# Altium footprint library DZ_LIB.PcbLib: 61 footprints (part 1 of 4)
Each footprint in its own frame and in the unit in brackets; x right, y up, seen from the top. Pads: shape width x height; smd on the part's side, far side on the other; paste and mask are expansions set on the pad; w line width, h text height; cw(c..) or ccw(c..) is an arc to the next point about the centre after c.
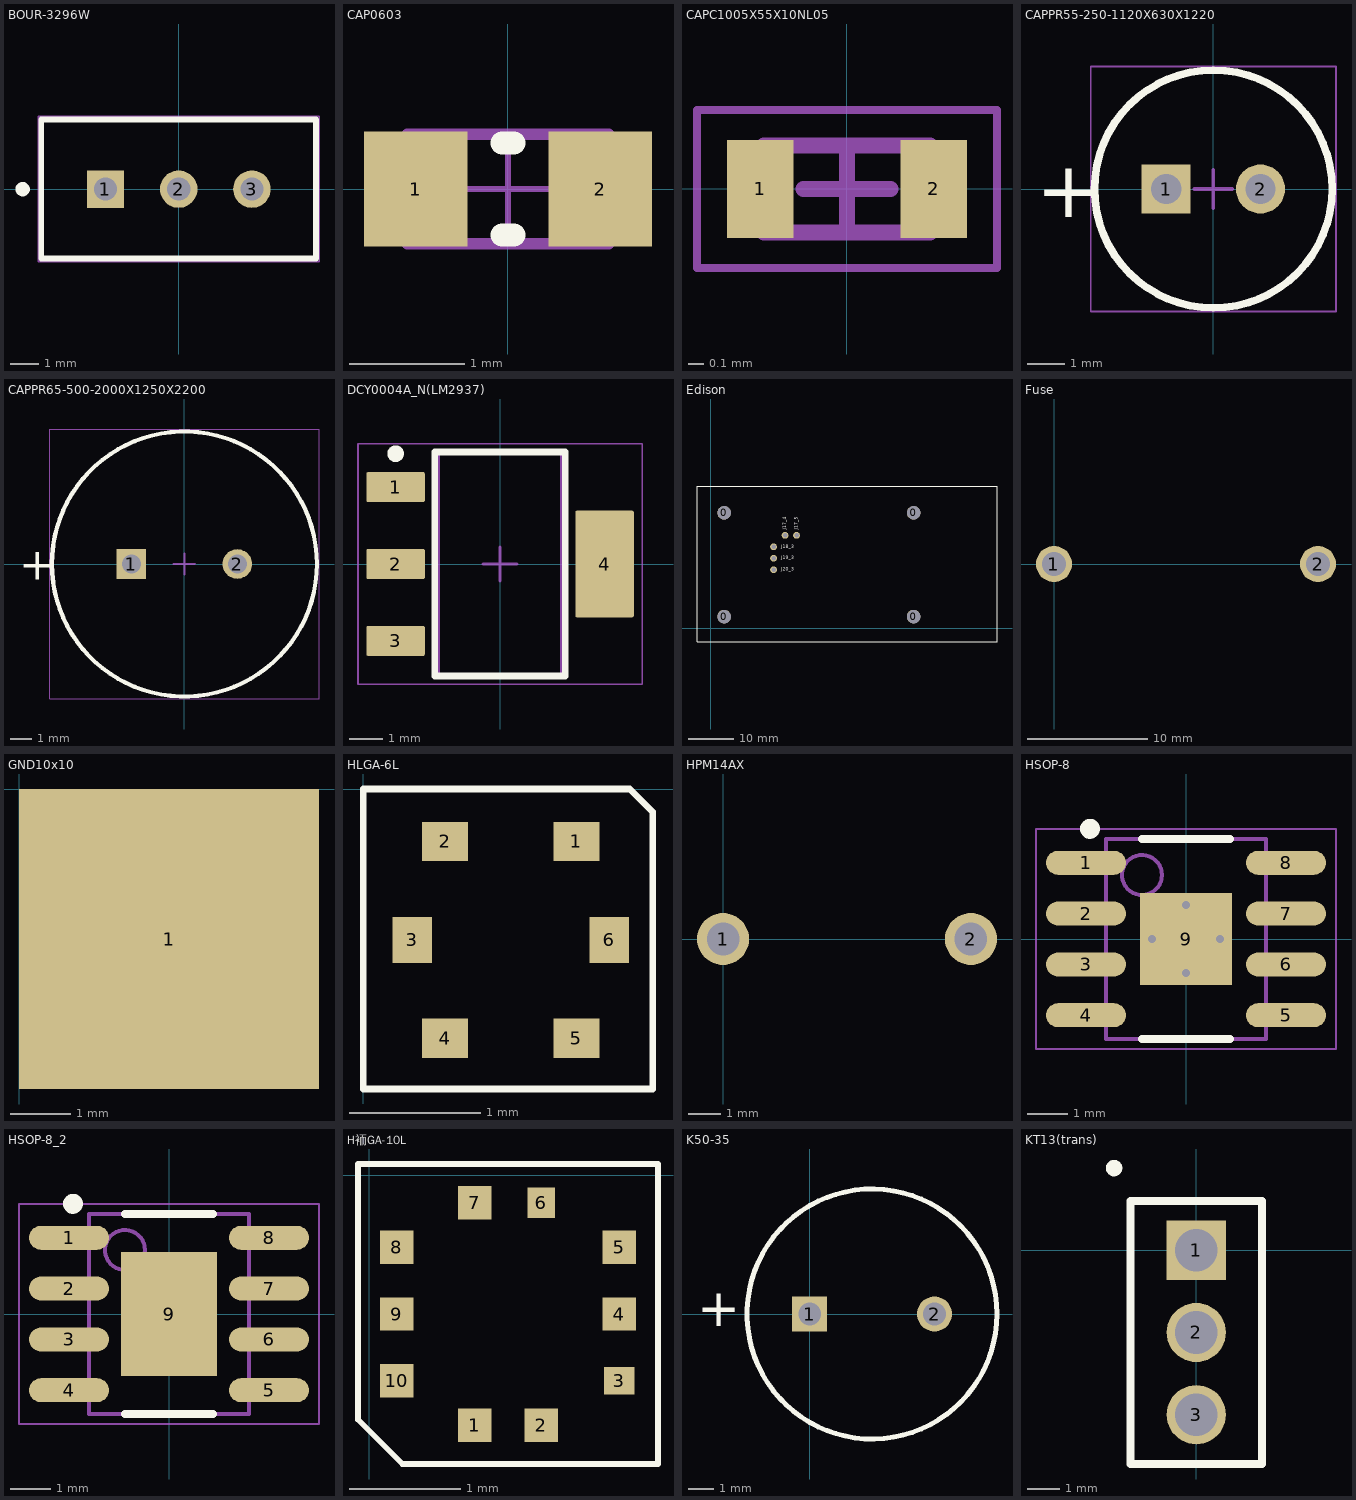
[diagram p0: the footprints below, top view; thin cyan lines are the x and y axes]

## BOUR-3296W [mm] "THD, 3-Leads, Body 9.53x4.83mm, Pitch 2.54mm"
height 11.904
pads (3):
  rect 1.3x1.3 hole 0.8: 1(-2.54,0)
  round 1.3 hole 0.8: 2(0,0) 3(2.54,0)
Top Overlay:
  circle w0.25: c-5.415,0 r0.125
  lines w0.2: 4.765,-2.41 -4.765,-2.41 -4.765,2.42 4.765,2.42 4.765,-2.405
Mechanical 13:
  lines w0.1: -4.765,-2.41 -4.765,2.42 4.765,2.42 4.765,-2.41 -4.765,-2.41
Mechanical 15:
  lines w0.05: -4.865,-2.51 -4.865,2.52 4.865,2.52 4.865,-2.51 -4.865,-2.51
  lines w0.1: -0.5,0 0.5,0 ; 0,-0.5 0,0.5
3D body "3296W.stp": height 11.55, standoff -6.4, extent -4.762,-2.405 4.762,2.421

## CAP0603 [mm] "Chip Capacitor, Body 1.6x0.8mm, Height 1.0mm, IPC Medium Density"
height 1
pads (2):
  rect 0.9x1 smd: 1(-0.8,0) 2(0.8,0)
Top Overlay:
  lines w0.2: -0.05,-0.4 0.05,-0.4 ; -0.05,0.4 0.05,0.4
Mechanical 13:
  lines w0.1: -0.875,-0.475 0.875,-0.475 0.875,0.475 -0.875,0.475 -0.875,-0.475
Mechanical 15:
  lines w0.05: -0.475,0 0.475,0 ; 0,-0.475 0,0.475
3D body: height 1, standoff 0, extent 0.525,-0.475 0.875,0.475
3D body: height 1, standoff 0, extent -0.875,-0.475 -0.525,0.475
3D body: height 1, standoff 0, extent -0.525,-0.475 0.525,0.475

## CAPC1005X55X10NL05 [mm] "Chip Capacitor, 2-Leads, Body 1.05x0.55mm, IPC Medium Density"
height 0.55
pads (2):
  rect 0.42x0.62 smd: 1(-0.55,0) 2(0.55,0)
Mechanical 13:
  lines w0.1: -0.525,-0.275 0.525,-0.275 0.525,0.275 -0.525,0.275 -0.525,-0.275
Mechanical 15:
  lines w0.05: -0.95,-0.5 0.95,-0.5 0.95,0.5 -0.95,0.5 -0.95,-0.5
  lines w0.1: -0.275,0 0.275,0 ; 0,-0.275 0,0.275
3D body: height 0.55, standoff 0, extent 0.425,-0.275 0.525,0.275
3D body: height 0.55, standoff 0, extent -0.525,-0.275 -0.425,0.275
3D body: height 0.55, standoff 0, extent -0.425,-0.275 0.425,0.275

## CAPPR55-250-1120X630X1220 [mm] "THD, 2-Leads, Dia 6.3mm, Body Length 11.2mm"
height 12.2
pads (2):
  rect 1.3x1.3 hole 0.8: 1(-1.25,0)
  round 1.3 hole 0.8: 2(1.25,0)
Top Overlay:
  circle w0.2: c0,0 r3.15
  text "+" at -4.7,-0.75 h1.5
Mechanical 13:
  circle w0.1: c0,0 r3.15
Mechanical 15:
  lines w0.05: -3.25,-3.25 -3.25,3.25 3.25,3.25 3.25,-3.25 -3.25,-3.25
  lines w0.1: -0.5,0 0.5,0 ; 0,-0.5 0,0.5
3D body "PNSC-ECA-1VM101.stp": height 12.21, standoff -4, extent -3.15,-3.15 3.16,3.15

## CAPPR65-500-2000X1250X2200 [mm] "THD, 2-Leads, Dia 12.5mm, Body Length 20mm"
height 22
pads (2):
  rect 1.4x1.4 hole 0.9: 1(-2.5,0)
  round 1.4 hole 0.9: 2(2.5,0)
Top Overlay:
  circle w0.2: c0,0 r6.25
  text "+" at -7.8,-0.75 h1.5
Mechanical 13:
  circle w0.1: c0,0 r6.25
Mechanical 15:
  lines w0.05: -6.35,-6.35 6.35,-6.35 6.35,6.35 -6.35,6.35 -6.35,-6.35
  lines w0.1: -0.5,0 0.5,0 ; 0,-0.5 0,0.5
3D body "CAPPR65-500-2000X1250X2200.stp": height 23.01, standoff -3, extent -6.25,-6.25 6.26,6.25

## DCY0004A_N(LM2937) [mm] "SOT223, 4-Leads, Body 6.7x3.7mm, Pitch 2.3mm, IPC Medium Density"
height 1.8
pads (4):
  rrect11% 1.75x0.9 smd: 1(-3.125,2.3) 2(-3.125,0) 3(-3.125,-2.3)
  rrect6% 1.75x3.2 smd: 4(3.125,0)
Top Overlay:
  circle w0.25: c-3.125,3.3 r0.125
  lines w0.2: -1.95,-3.35 -1.95,3.35 1.95,3.35 1.95,-3.35 -1.95,-3.35
Mechanical 13:
  lines w0.1: -1.85,-3.35 -1.85,3.35 1.85,3.35 1.85,-3.35 -1.85,-3.35
Mechanical 15:
  lines w0.05: -4.25,-3.6 -4.25,3.6 4.25,3.6 4.25,-3.6 -4.25,-3.6
  lines w0.1: -0.5,0 0.5,0 ; 0,-0.5 0,0.5
3D body "SOT-223.stp": height 1.62, standoff -0.03, extent -3.5,-3.25 3.5,3.25

## Edison [mm]
pads (9):
  round 3 hole 3: 0(3,2.6) 0(3,25.6) 0(45,2.6) 0(45,25.6)
  round 1.5 hole 1: J17-4(16.52,20.6) J17-5(19.06,20.6) J18-3(13.98,18.06) J19-3(13.98,15.52) J20-3(13.98,12.98)
Top Overlay:
  lines w0.254: -3,-3 -3,31 -3,31.5 63.5,31.5 63.5,-2.5 63.5,-3 -3,-3
  text "J18_3" at 15.707,17.755 h0.7
  text "J19_3" at 15.656,15.317 h0.7
  text "J17_4" at 16.774,21.87 h0.7
  text "J20_3" at 15.631,12.726 h0.7
  text "J17_5" at 19.314,21.87 h0.7
3D body "edison.STEP": height 13, standoff 2, extent 0,0 60.6,28.6

## Fuse [mm]
pads (2):
  round 3 hole 2: 1(0,0.002) 2(22,0.002)
3D body "User Library-Fuse_Holder_Body.SLDPRT": height 8, standoff 1, extent 0,-4.498 22,4.502
3D body "User Library-Fuse_Holder_Fuse.SLDPRT": height 13.5, standoff 8.5, extent 1,-2.497 21,2.497
3D body "User Library-Fuse_Holder_pin.SLDPRT": height 14.22, standoff -4.63, extent 15.71,-3.009 22.29,3.002
3D body "User Library-Fuse_Holder_pin.SLDPRT": height 14.22, standoff -4.63, extent -0.29,-2.998 6.29,3.014

## GND10x10 [mm] "GND"
pads (1):
  rect 5x5 smd: 1(2.5,-2.5)

## HLGA-6L [mm] "HTS221"
height 0.9
pads (6):
  rect 0.35x0.3 smd: 1(1.625,-0.4) 2(0.625,-0.4) 4(0.625,-1.9) 5(1.625,-1.9)
  rect 0.3x0.35 smd: 3(0.375,-1.15) 6(1.875,-1.15)
Top Overlay:
  lines w0.05: 0,-2.286 2.207,-2.286 2.207,-0.175 2.032,0 1.775,0 0,0 0,-2.286
3D body: height 1, standoff 0.1, extent 0.125,-2.15 2.125,-0.15

## HPM14AX [mm]
pads (2):
  round 1.6 hole 1: 1(0,0) 2(7.6,0)
3D body: height 8.5, standoff 1, extent -3.1,-6.898 10.7,6.898

## HSOP-8 [mm] "SOIC, 8-Leads, Body 4.9x3.9mm, Pitch 1.27mm, Thermal Pad, IPC Medium Density"
height 1.7
pads (9):
  oval 2x0.6 smd: 1(-2.5,1.905) 2(-2.5,0.635) 3(-2.5,-0.635) 4(-2.5,-1.905) 5(2.5,-1.905) 6(2.5,-0.635) 7(2.5,0.635) 8(2.5,1.905)
  rect 2.3x2.3 smd paste-1.15: 9(0,0)
via 0.85,0 diameter 0.5 hole 0.2
via -0.85,0 diameter 0.5 hole 0.2
via 0,0.85 diameter 0.5 hole 0.2
via 0,-0.85 diameter 0.5 hole 0.2
Top Overlay:
  circle w0.25: c-2.4,2.755 r0.125
  lines w0.2: -1.1,-2.5 1.1,-2.5 ; -1.1,2.5 1.1,2.5
Top Paste:
  region: 0.1,-0.1 0.1,-1.05 1.05,-1.05 1.05,-0.1
  region: -0.1,-0.1 -1.05,-0.1 -1.05,-1.05 -0.1,-1.05
  region: -0.1,0.1 -0.1,1.05 -1.05,1.05 -1.05,0.1
  rectangle: 0.1,0.1 1.05,1.05
Mechanical 13:
  circle w0.1: c-1.1,1.6 r0.5
  lines w0.1: -2,-2.5 2,-2.5 2,2.5 -2,2.5 -2,-2.5
Mechanical 15:
  lines w0.05: -3.75,-2.75 -3.75,2.75 3.75,2.75 3.75,-2.75 -3.75,-2.75
  lines w0.1: -0.5,0 0.5,0 ; 0,-0.5 0,0.5
3D body: height 1.7, standoff 0, extent -2,-2.5 2,2.5

## HSOP-8_2 [mm] "SOIC, 8-Leads, Body 4.9x3.9mm, Pitch 1.27mm, Thermal Pad, IPC Medium Density"
height 1.75
pads (9):
  oval 2x0.6 smd: 1(-2.5,1.905) 2(-2.5,0.635) 3(-2.5,-0.635) 4(-2.5,-1.905) 5(2.5,-1.905) 6(2.5,-0.635) 7(2.5,0.635) 8(2.5,1.905)
  rect 2.4x3.1 smd paste-1.2: 9(0,0)
Top Overlay:
  circle w0.25: c-2.4,2.755 r0.125
  lines w0.2: -1.1,-2.5 1.1,-2.5 ; -1.1,2.5 1.1,2.5
Top Paste:
  rectangle: 0.1,0.1 1.1,1.45
  region: -0.1,1.45 -1.1,1.45 -1.1,0.1 -0.1,0.1
  region: -0.1,-0.1 -1.1,-0.1 -1.1,-1.45 -0.1,-1.45
  rectangle: 0.1,-1.45 1.1,-0.1
Mechanical 13:
  circle w0.1: c-1.1,1.6 r0.5
  lines w0.1: -2,-2.5 2,-2.5 2,2.5 -2,2.5 -2,-2.5
Mechanical 15:
  lines w0.05: -3.75,-2.75 3.75,-2.75 3.75,2.75 -3.75,2.75 -3.75,-2.75
  lines w0.1: -0.5,0 0.5,0 ; 0,-0.5 0,0.5
3D body: height 1.75, standoff 0, extent -2,-2.5 2,2.5

## H袻GA-10L [mm] "LPS22HB"
height 0.8
pads (10):
  rect 0.3x0.3 smd: 1(0.95,-2.25) 2(1.55,-2.25) 4(2.25,-1.25) 5(2.25,-0.65) 7(0.95,-0.25) 8(0.25,-0.65) 9(0.25,-1.25) 10(0.25,-1.85)
  rect 0.275x0.25 smd: 3(2.25,-1.85)
  rect 0.25x0.275 smd: 6(1.55,-0.25)
Top Overlay:
  lines w0.05: -0.1,-2.2 0.3,-2.6 2.6,-2.6 2.6,0.1 -0.1,0.1 -0.1,-2.2
3D body: height 0.8, standoff 0.1, extent 0.006,-2.506 2.519,0.006

## K50-35 [mm] "Jamicon 470uF 25V"
pads (2):
  rect 1.4x1.4 hole 0.9: 1(0,0)
  round 1.4 hole 0.9: 2(5,0)
Top Overlay:
  circle w0.2: c2.5,0 r5
  text "+" at -4.5,-0.5 h1.5
3D body: height 13.5, standoff 1, extent -2.5,-5 7.5,5

## KT13(trans) [mm]
height 6
pads (3):
  rect 1.8x1.8 hole 1.3: 1(0,0)
  round 1.8 hole 1.3: 2(0,-2.5) 3(0,-5)
Top Overlay:
  circle w0.25: c-2.5,2.5 r0.125
  lines w0.254: -2,-6.5 2,-6.5 2,1.5 -2,1.5 -2,-6.5
3D body "User Library-KT315-1.SLDPRT": height 5.5, standoff -4.5, extent -1.5,-6.1 1.5,1.1